# EAGLE library part EMIF06-MSD02N16 (library EMIF06-MSD02N16 - ESD Protection - SD Card)
Check availability <https://pricing.snapeda.com/parts/EMIF06-MSD02N16/STMicroelectronics/view-part?ref=eda>
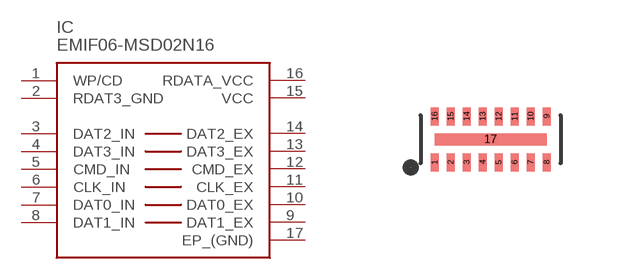
[diagram p0: symbol with the pads of MICRO_QFN; footprint MICRO_QFN]

Designator prefix IC

## EMIF06-MSD02N16  [MICRO_QFN]
1  WP/CD
2  RDAT3_GND
3  DAT2_IN
4  DAT3_IN
5  CMD_IN
6  CLK_IN  in
7  DAT0_IN
8  DAT1_IN
9  DAT1_EX
10  DAT0_EX
11  CLK_EX  out
12  CMD_EX
13  DAT3_EX
14  DAT2_EX
15  VCC  pwr
16  RDATA_VCC
17  EP_(GND)  pwr

## Footprint MICRO_QFN (pad centres in mm)
Micro QFN 3.5x1.2 16L
smd 0.2 x 0.45: 1 -1.4,-0.375; 2 -1,-0.375; 3 -0.6,-0.375; 4 -0.2,-0.375; 5 0.2,-0.375; 6 0.6,-0.375; 7 1,-0.375; 8 1.4,-0.375; 9 1.4,0.775; 10 1,0.775; 11 0.6,0.775; 12 0.2,0.775; 13 -0.2,0.775; 14 -0.6,0.775; 15 -1,0.775; 16 -1.4,0.775
smd 2.8 x 0.3: 17 0,0.2